# Altium footprint library Конденсаторы-mm.PcbLib: 129 footprints (part 7 of 9)
Each footprint in its own frame and in the unit in brackets; x right, y up, seen from the top. Pads: shape width x height; smd on the part's side, far side on the other; paste and mask are expansions set on the pad; w line width, h text height; cw(c..) or ccw(c..) is an arc to the next point about the centre after c.
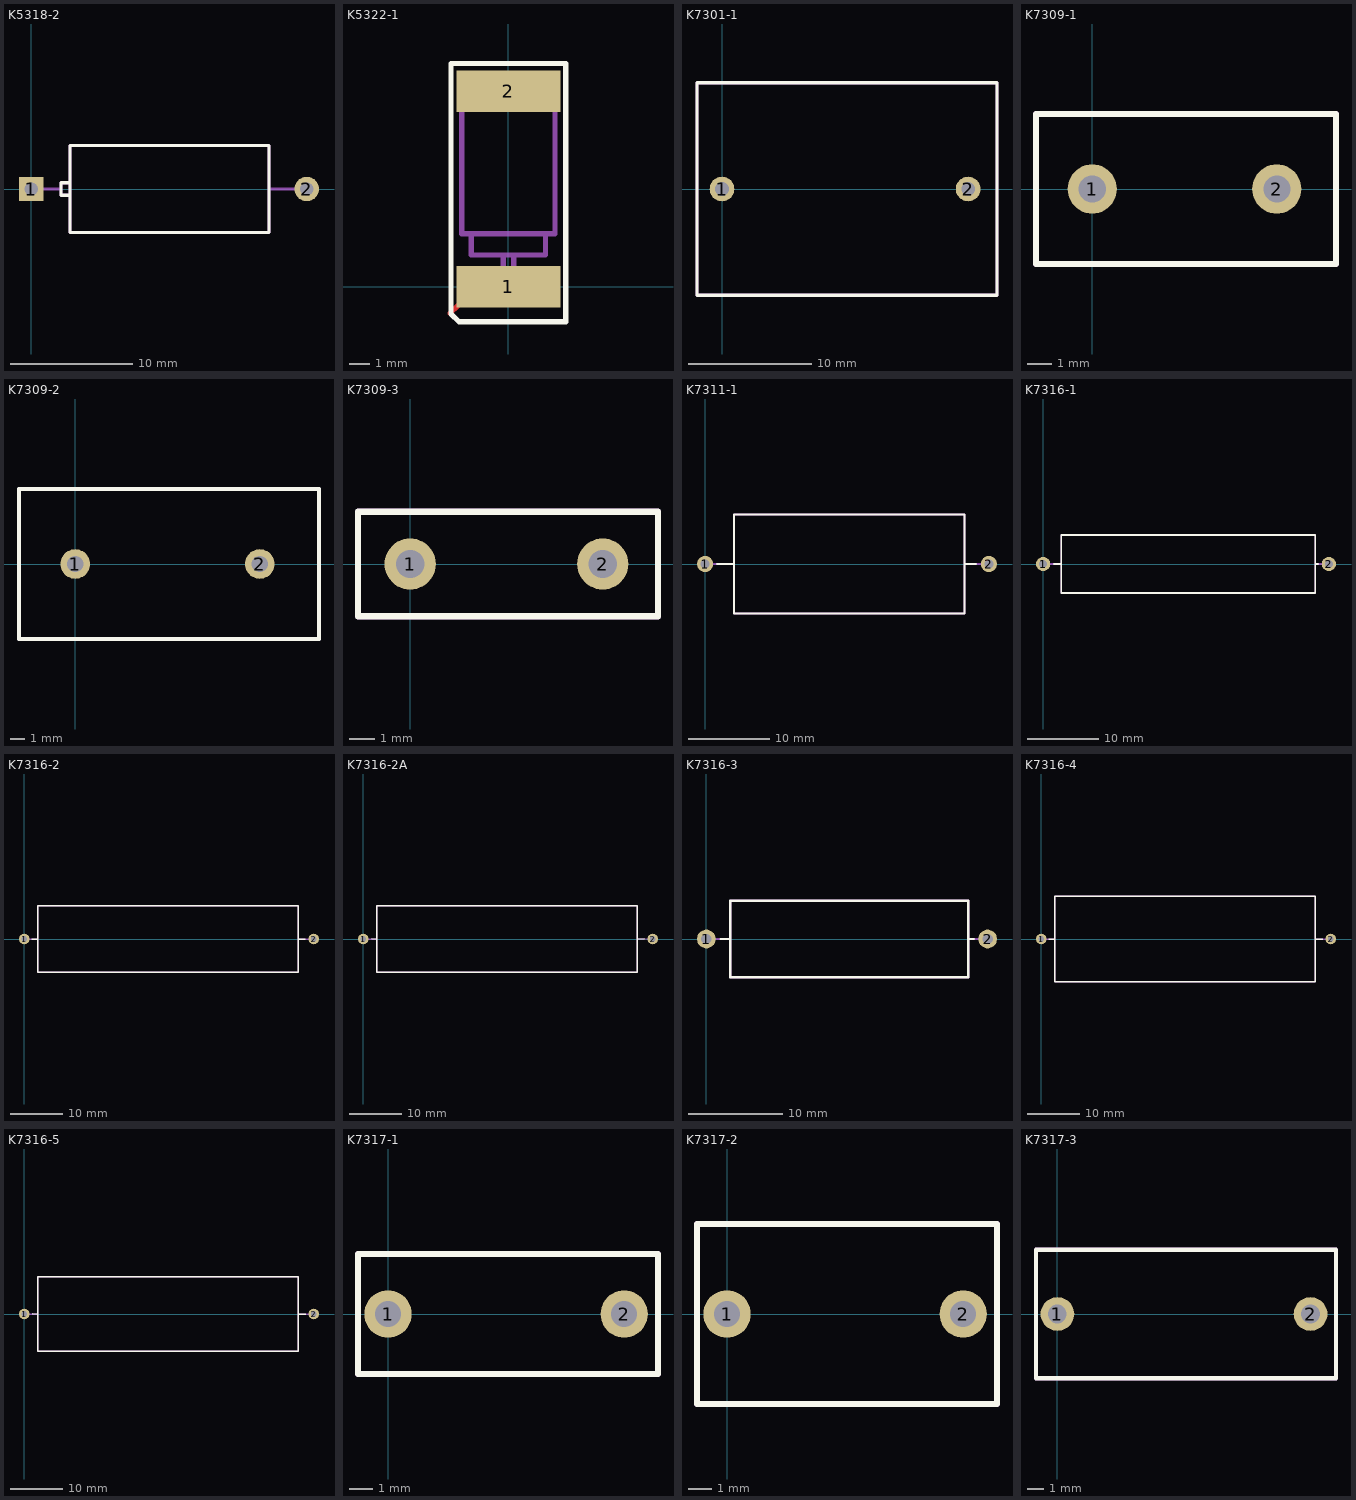
[diagram p6: the footprints below, top view; thin cyan lines are the x and y axes]

## K5318-2 [mm]
pads (2):
  rect 2x2 hole 1.1: 1(0,0)
  round 2 hole 1.1: 2(22.5,0)
Top Overlay:
  lines w0.25: 3.175,-0.508 2.413,-0.508 2.413,0.508 3.175,0.508 ; 3.175,-3.556 19.431,-3.556 19.431,3.556 5.207,3.556 3.175,3.556 3.175,-3.556
Mechanical 1:
  lines w0.25: 0,0 2.413,0 ; 3.175,-0.508 2.413,-0.508 2.413,0.508 3.175,0.508 ; 19.431,0 22.25,0 ; 3.175,-3.556 19.431,-3.556 19.431,3.556 5.207,3.556 3.175,3.556 3.175,-3.556

## K5322-1 [mm]
pads (2):
  rect 5x2 smd: 1(0,0) 2(0,9.375)
Top Layer:
  lines w0.25: -2.794,-1.27 -2.413,-0.889
Top Overlay:
  lines w0.25: -2.75,-1.295 -2.375,-1.67 2.75,-1.67 2.75,4.705 2.75,10.705 -2.75,10.705 -2.75,7.08 -2.75,-0.545 -2.75,-1.295
Mechanical 1:
  lines w0.25: -1.778,2.54 -1.778,1.524 1.778,1.524 1.778,2.54 ; -0.254,0.254 -1.27,0.254 -1.27,0.762 -0.254,0.762 ; -0.254,1.524 -0.254,0 0.254,0 0.254,1.524 ; 0.254,0.254 1.27,0.254 1.27,0.762 0.254,0.762 ; -2.235,2.54 2.235,2.54 2.235,9.144 -2.235,9.144 -2.235,2.54

## K7301-1 [mm]
pads (2):
  round 2 hole 1.1: 1(0,0) 2(20,0)
Top Overlay:
  lines w0.25: -2.032,-8.636 22.352,-8.636 22.352,8.636 -2.032,8.636 -2.032,-8.636
Mechanical 1:
  lines w0.25: -2.032,-8.636 22.352,-8.636 22.352,8.636 -2.032,8.636 -2.032,-8.636

## K7309-1 [mm]
pads (2):
  round 2 hole 1.1: 1(0,0) 2(7.5,0)
Top Overlay:
  lines w0.25: -2.286,-3.048 9.906,-3.048 9.906,3.048 -2.286,3.048 -2.286,-3.048
Mechanical 1:
  lines w0.25: -2.286,-3.048 9.906,-3.048 9.906,3.048 -2.286,3.048 -2.286,-3.048

## K7309-2 [mm]
pads (2):
  round 2 hole 1.1: 1(0,0) 2(12.5,0)
Top Overlay:
  lines w0.25: -3.81,-5.08 16.51,-5.08 16.51,5.08 -3.81,5.08 -3.81,-5.08
Mechanical 1:
  lines w0.25: -3.81,-5.08 16.51,-5.08 16.51,5.08 -3.81,5.08 -3.81,-5.08

## K7309-3 [mm]
pads (2):
  round 2 hole 1.1: 1(0,0) 2(7.5,0)
Top Overlay:
  lines w0.25: -2.032,-2.032 9.652,-2.032 9.652,2.032 -2.032,2.032 -2.032,-2.032
Mechanical 1:
  lines w0.25: -2.032,-2.032 9.652,-2.032 9.652,2.032 -2.032,2.032 -2.032,-2.032

## K7311-1 [mm]
pads (2):
  round 2 hole 1.1: 1(0,0) 2(35,0)
Top Overlay:
  lines w0.25: 1.47,0 3.556,0 ; 32.004,0 33.43,0 ; 3.556,-6.096 32.004,-6.096 32.004,6.096 3.556,6.096 3.556,-2.54 3.556,-6.096
Mechanical 1:
  lines w0.25: -0.01,0 3.556,0 ; 32.004,0 34.995,0 ; 3.556,-6.096 32.004,-6.096 32.004,6.096 3.556,6.096 3.556,-2.54 3.556,-6.096

## K7316-1 [mm]
pads (2):
  round 2 hole 1.1: 1(0,0) 2(40,0)
Top Overlay:
  lines w0.25: 1.47,-0.005 2.54,0 ; 38.1,0 38.51,0 ; 2.54,-4.064 38.1,-4.064 38.1,4.064 2.54,4.064 2.54,-4.064
Mechanical 1:
  lines w0.25: 0,0 2.54,0 ; 38.1,0 40.005,0 ; 2.54,-4.064 38.1,-4.064 38.1,4.064 2.54,4.064 2.54,-4.064

## K7316-2 [mm]
pads (2):
  round 2 hole 1.1: 1(0,0) 2(55,0)
Top Overlay:
  lines w0.25: 1.45,-0.005 2.54,0 ; 52.07,0 53.365,0 ; 2.54,-6.35 52.07,-6.35 52.07,6.35 2.54,6.35 2.54,-6.35
Mechanical 1:
  lines w0.25: 0,0 2.54,0 ; 52.07,0 54.99,0 ; 2.54,-6.35 52.07,-6.35 52.07,6.35 2.54,6.35 2.54,-6.35

## K7316-2A [mm]
pads (2):
  round 2 hole 1.1: 1(0,0) 2(55,0)
Top Overlay:
  lines w0.25: 1.64,0.005 2.54,0 ; 52.07,0 53.375,0.005 ; 2.54,-6.35 52.07,-6.35 52.07,6.35 2.54,6.35 2.54,-6.35
Mechanical 1:
  lines w0.25: 0,0 2.54,0 ; 52.07,0 55.01,0.005 ; 2.54,-6.35 52.07,-6.35 52.07,6.35 2.54,6.35 2.54,-6.35

## K7316-3 [mm]
pads (2):
  round 2 hole 1.1: 1(0,0) 2(30,0)
Top Overlay:
  lines w0.25: 1.515,0 2.54,0 ; 27.94,0 28.53,0.005 ; 2.54,-4.064 27.94,-4.064 27.94,4.064 2.54,4.064 2.54,-4.064
Mechanical 1:
  lines w0.25: 0,0 2.54,0 ; 27.94,0 30.01,0.005 ; 2.54,-4.064 27.94,-4.064 27.94,4.064 2.54,4.064 2.54,-4.064

## K7316-4 [mm]
pads (2):
  round 2 hole 1.1: 1(0,0) 2(55,0)
Top Overlay:
  lines w0.25: 1.465,0 2.54,0 ; 52.07,0 53.48,0 ; 2.54,-8.128 52.07,-8.128 52.07,8.128 2.54,8.128 2.54,-8.128
Mechanical 1:
  lines w0.25: 0,0 2.54,0 ; 52.07,0 55,0 ; 2.54,-8.128 52.07,-8.128 52.07,8.128 2.54,8.128 2.54,-8.128

## K7316-5 [mm]
pads (2):
  round 2 hole 1.1: 1(0,0) 2(55,0)
Top Overlay:
  lines w0.25: 1.495,0.005 2.54,0 ; 52.07,0 53.53,0 ; 2.54,-7.112 52.07,-7.112 52.07,7.112 2.54,7.112 2.54,-7.112
Mechanical 1:
  lines w0.25: 0,0 2.54,0 ; 52.07,0 55,0 ; 2.54,-7.112 52.07,-7.112 52.07,7.112 2.54,7.112 2.54,-7.112

## K7317-1 [mm]
pads (2):
  round 2 hole 1.1: 1(0,0) 2(10,0)
Top Overlay:
  lines w0.25: -1.27,-2.54 11.43,-2.54 11.43,2.54 -1.27,2.54 -1.27,-2.54
Mechanical 1:
  lines w0.25: -1.27,-2.54 11.43,-2.54 11.43,2.54 -1.27,2.54 -1.27,-2.54

## K7317-2 [mm]
pads (2):
  round 2 hole 1.1: 1(0,0) 2(10,0)
Top Overlay:
  lines w0.25: -1.27,-3.81 11.43,-3.81 11.43,3.81 -1.27,3.81 -1.27,-3.81
Mechanical 1:
  lines w0.25: -1.27,-3.81 11.43,-3.81 11.43,3.81 -1.27,3.81 -1.27,-3.81

## K7317-3 [mm]
pads (2):
  round 2 hole 1.1: 1(0,0) 2(15,0)
Top Overlay:
  lines w0.25: -1.27,-3.81 16.51,-3.81 16.51,3.81 -1.27,3.81 -1.27,-3.81
Mechanical 1:
  lines w0.25: -1.27,-3.81 16.51,-3.81 16.51,3.81 -1.27,3.81 -1.27,-3.81